# Altium schematic symbol library DSEQ.Schlib: 1 symbol
Pins are listed as number, name and electrical type; pins without a type are passive.

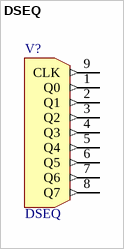
[diagram p0: symbol DSEQ]

## DSEQ
designator V?
Data Sequencer with Clock Output
pins: 1 Q0 (out), 2 Q1 (out), 3 Q2 (out), 4 Q3 (out), 5 Q4 (out), 6 Q5 (out), 7 Q6 (out), 8 Q7 (out), 9 CLK (out)